# Altium schematic symbol library Specials.SchLib: 1 symbol
Pins are listed as number, name and electrical type; pins without a type are passive.

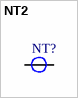
[diagram p0: symbol NT2]

## NT2
designator NT?  (value not drawn)  (net tie, no BOM)
pins: 1, 2